# Altium schematic symbol library SCH - OPAMP - STM TSH80IYLT.Schlib: 1 symbol
Pins are listed as number, name and electrical type; pins without a type are passive.

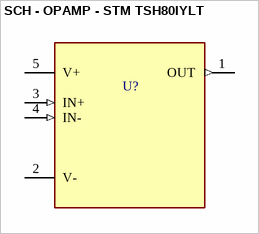
[diagram p0: symbol SCH - OPAMP - STM TSH80IYLT]

## SCH - OPAMP - STM TSH80IYLT
designator U?
footprint SOT23-5L_N (SOT23, 5-Leads, Body 2.9x1.6mm, Pitch 0.95mm, Lead Span 2.8mm, IPC Medium Density)
pins: 1 OUT (out), 2 V- (power), 3 IN+ (in), 4 IN- (in), 5 V+ (power)